# EAGLE library part DRV8801 (library BlueBoard)
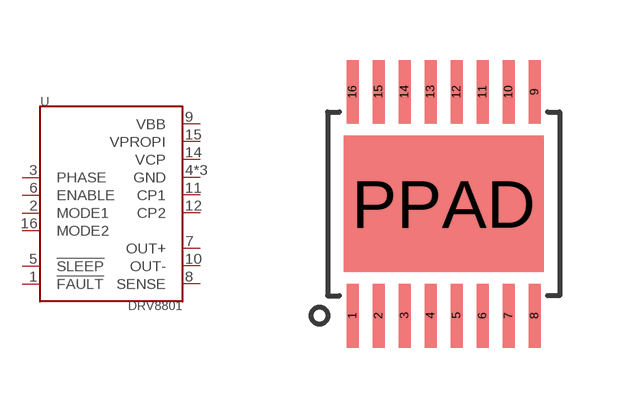
[diagram p7: symbol with the pads of PWP_16; footprint PWP_16]

Designator prefix -

## DRV8801  [PWP_16]
1  !FAULT!
2  MODE1
3  PHASE
4  GND  pwr
5  !SLEEP!
6  ENABLE
7  OUT+
8  SENSE
9  VBB  pwr
10  OUT-
11  CP1
12  CP2
13  GND  pwr
14  VCP  pas
15  VPROPI  pas
16  MODE2
PPAD  GND  pwr

## Footprint PWP_16 (pad centres in mm)
smd 0.3 x 1.6: 1 -2.275,-2.8; 2 -1.625,-2.8; 3 -0.975,-2.8; 4 -0.325,-2.8; 5 0.325,-2.8; 6 0.975,-2.8; 7 1.625,-2.8; 8 2.275,-2.8; 9 2.275,2.8; 10 1.625,2.8; 11 0.975,2.8; 12 0.325,2.8; 13 -0.325,2.8; 14 -0.975,2.8; 15 -1.625,2.8; 16 -2.275,2.8
smd 5 x 3.4: PPAD 0,0